# Altium footprint library Science.PcbLib: 21 footprints (part 2 of 2)
Each footprint in its own frame and in the unit in brackets; x right, y up, seen from the top. Pads: shape width x height; smd on the part's side, far side on the other; paste and mask are expansions set on the pad; w line width, h text height; cw(c..) or ccw(c..) is an arc to the next point about the centre after c.
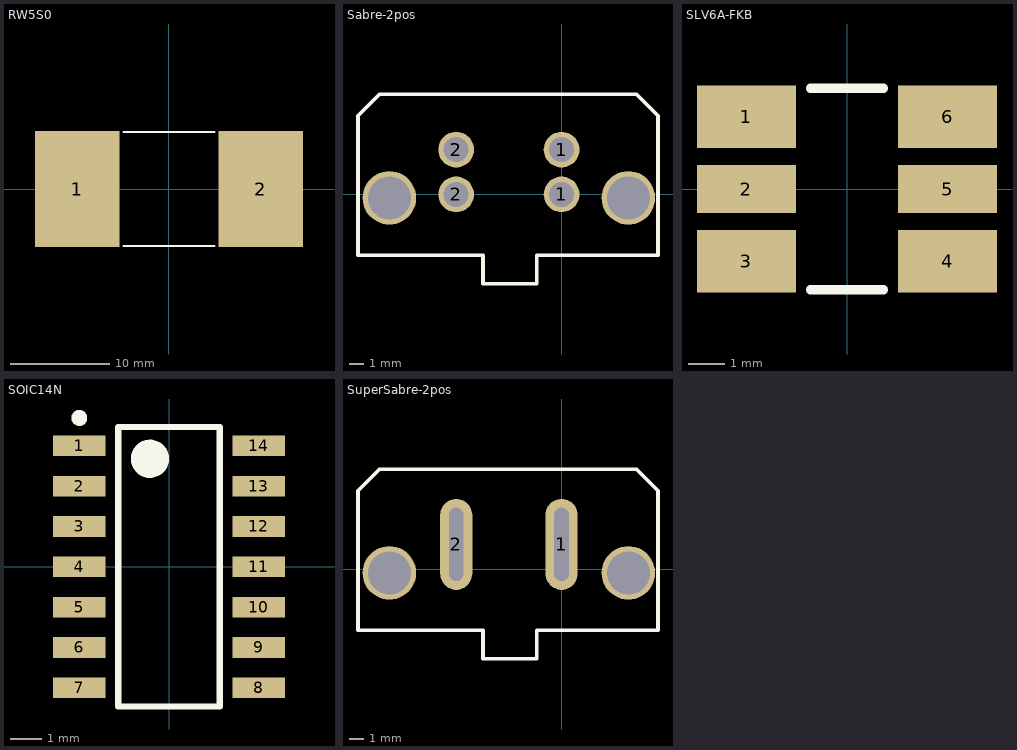
[diagram p1: the footprints below, top view; thin cyan lines are the x and y axes]

## RW5S0 [mm] "Chip Resistor, 2-Leads, Body 20.50x9.20mm, IPC Low Density"
height 10.8
pads (2):
  rect 8.5x11.7 smd: 1(-9.25,0) 2(9.25,0)
Top Overlay:
  lines w0.2: -4.6,-5.75 4.6,-5.75 ; -4.6,5.75 4.6,5.75
3D body "RW5S0.step": height 10.8, standoff 0, extent -10.5,-4.85 10.5,4.85

## Sabre-2pos [mil]
pads (6):
  round 100 hole 70: 1(0,0) 1(0,125) 2(-295,0) 2(-295,125)
  round 150 hole 120: ""(-482,-10) ""(187,-10)
Top Overlay:
  lines w10: -570,-170 -570,220 -510,280 210,280 270,220 270,-170 -70,-170 -70,-250 -220,-250 -220,-170 -570,-170

## SLV6A-FKB [mm]
pads (6):
  rect 2.7x1.7 smd: 1(-2.75,1.975) 3(-2.75,-1.975) 4(2.75,-1.975) 6(2.75,1.975)
  rect 2.7x1.3 smd: 2(-2.75,0) 5(2.75,0)
Top Overlay:
  lines w0.254: -1,-2.75 1,-2.75 ; -1,2.75 1,2.75

## SOIC14N [mm]
height 1.8
pads (14):
  rect 1.65x0.65 smd: 1(-2.825,3.81) 2(-2.825,2.54) 3(-2.825,1.27) 4(-2.825,0) 5(-2.825,-1.27) 6(-2.825,-2.54) 7(-2.825,-3.81) 8(2.825,-3.81) 9(2.825,-2.54) 10(2.825,-1.27) 11(2.825,0) 12(2.825,1.27) 13(2.825,2.54) 14(2.825,3.81)
Top Overlay:
  circle w0.25: c-2.825,4.685 r0.125
  circle w0.6: c-0.6,3.4 r0.3
  lines w0.2: -1.6,-4.4 -1.6,4.4 1.6,4.4 1.6,-4.4 -1.6,-4.4
3D body "SOIC14N.step": height 1.8, standoff 0, extent -3,-4.4 3,4.4

## SuperSabre-2pos [mil]
pads (4):
  oval 90x255 hole 40 slot 205 at 90 deg: 1(0,70) 2(-295,70)
  round 150 hole 120: ""(-482,-10) ""(187,-10)
Top Overlay:
  lines w10: -570,-170 -220,-170 -220,-250 -70,-250 -70,-170 270,-170 270,220 210,280 -510,280 -570,220 -570,-170